# Altium schematic symbol library Schlib_jp.SchLib: 203 symbols (part 3 of 6)
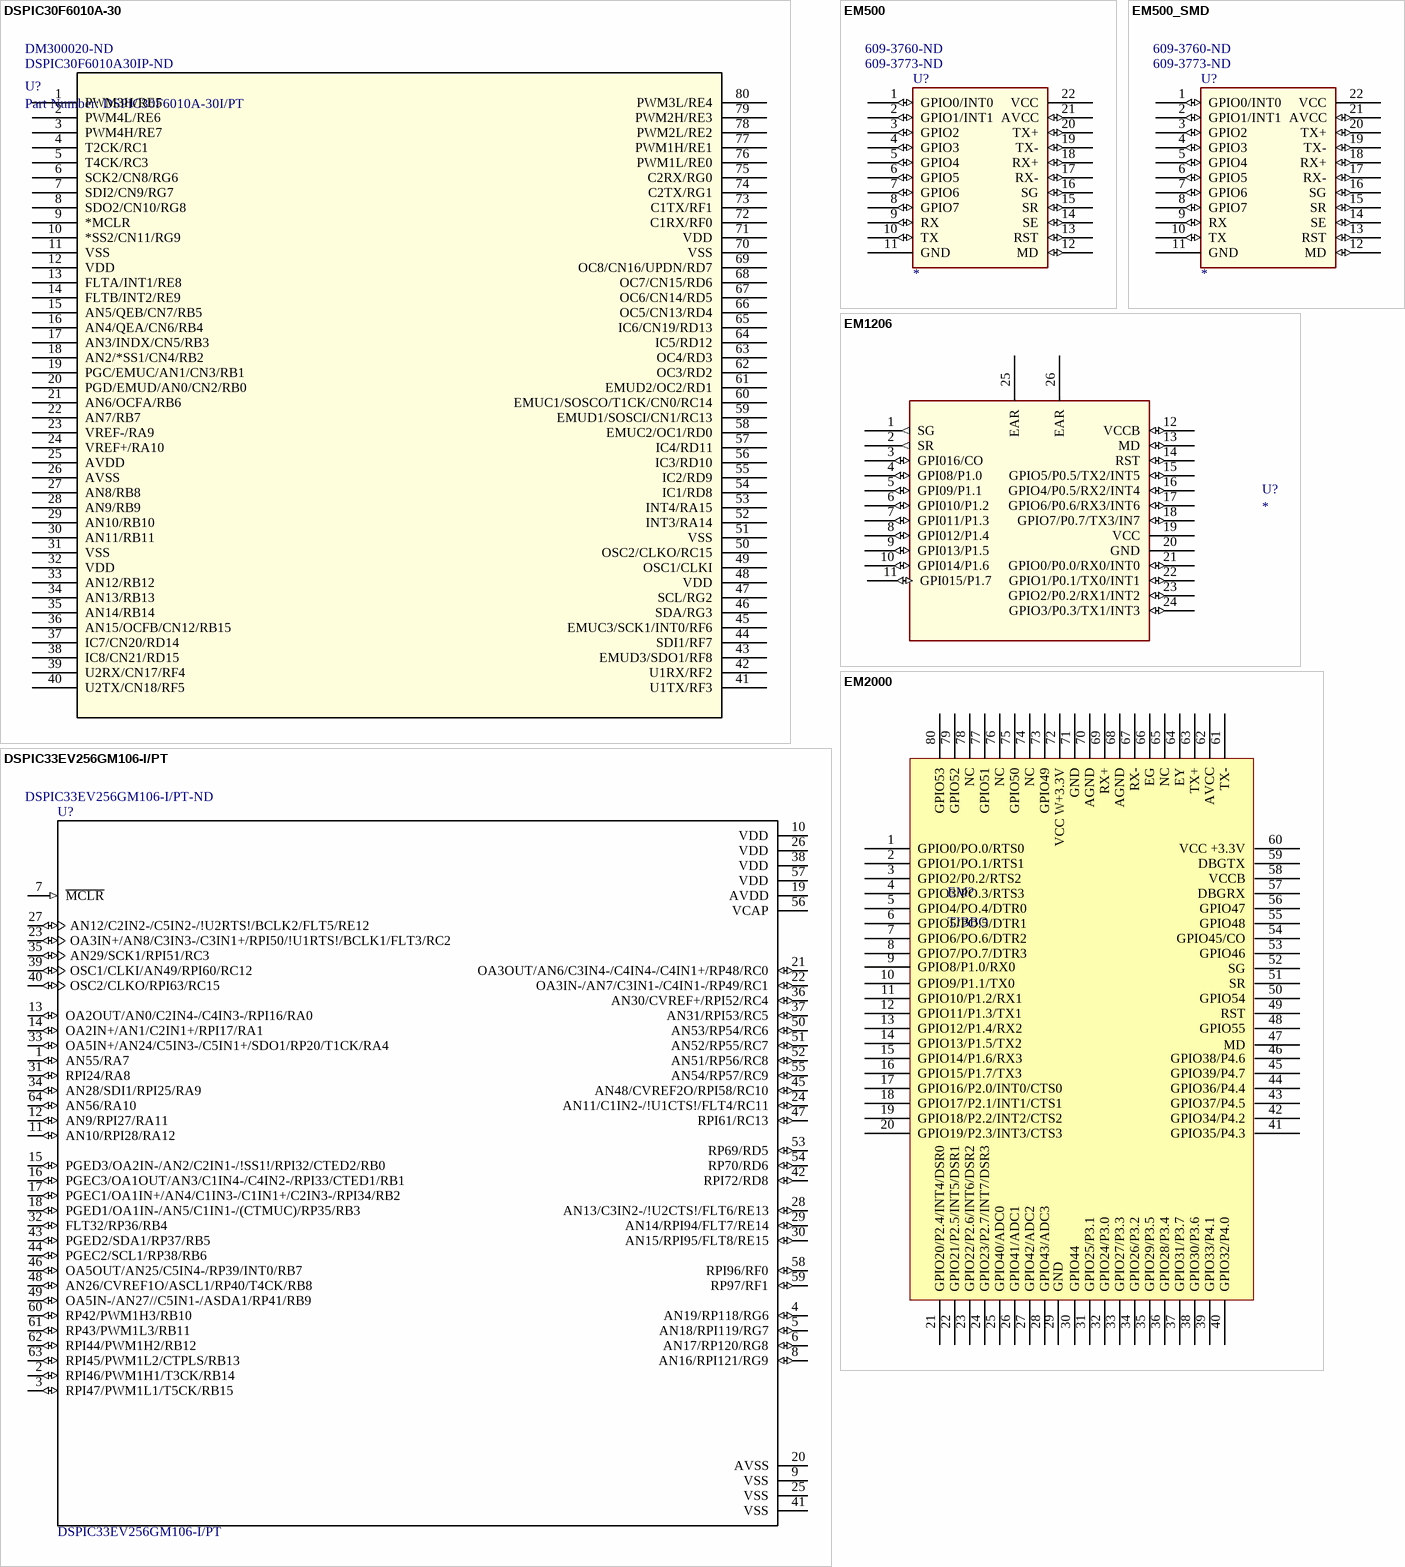
[diagram p10: symbols DSPIC30F6010A-30 to EM2000]

## DSPIC33EV256GM106-I/PT
designator U?  Supplier Part Number 1: DSPIC33EV256GM106-I/PT-ND
dsPIC33EV Series 16 kB RAM 256 kB Flash 16-Bit Digital Signal Controller-TQFP-64; MF: Microchip; RAM Size: 16KB; Min Supply Voltage: 4.5V; Max Supply Voltage: 5.5V; Density: 256KB; Number of PWM Channels: 8; Interface: I2C,SPI,CAN,IrDA,UART,USART,LIN; Number of I/Os: 53; Oscillator Type: Internal; Number of I2C Channels: 1; Number of SPI Channels: 2; Number of Timers/Counters: 9; Data Bus Width: 16b; Number of ADC Channels: 36; Operating Supply Voltage: 5V; Max Frequency: 7.37MHz; Peripherals: Brown-out Detect/Reset,POR,PWM,WDT,DMA; Core Architecture: dsPIC; MP: DSPIC33EV256GM106-I/PT; Digi-Key_Part_Number: DSPIC33EV256GM106-I/PT-ND; Package: TQFP-64 Microchip; SnapEDA_Link: https://www.snapeda.com/parts/DSPIC33EV256GM106-I/PT/Microchip/view-part/225841/?ref=snap; Digi-Key_Purchase_URL: https://www.digikey.com/product-detail/en/microchip-technology/DSPIC33EV256GM106-I-PT/DSPIC33EV256GM106-I-PT-ND/5032091?utm_source=snapeda&utm_medium=aggregator&utm_campaign=symbol; Value: *; Supplier 1: Digi-Key; Manufacturer: Microchip; Manufacturer Part Number: DSPIC33EV256GM106-I/PT; Stock 1: 586; Pricing 1: 1=4.14, 25=3.8 (USD); Mount: Surface Mount; Case/Package: TQFP; Number of Pins: 64; Weight: 0.01272oz; Min Operating Temperature: -40°C; Max Operating Temperature: 85°C; Packaging: Tray; Memory Type: FLASH; Memory Size: 256KB; Package Quantity: 160; Number of UART Channels: 2; Length: 10mm; Height: 1.05mm; Width: 10mm; REACH SVHC: No SVHC; Lead Free: Lead Free; ComponentLink1URL: http://www.farnell.com/datasheets/1866826.pdf?src-supplier=Element14; ComponentLink1Description: http://www.farnell.com/datasheets/1866826.pdf?src-supplier=Element14
footprint *QFP50P1200X1200X120-64N
pins: 1 AN55/RA7 (io), 2 RPI46/PWM1H1/T3CK/RB14 (io), 3 RPI47/PWM1L1/T5CK/RB15 (io), 4 AN19/RP118/RG6 (io), 5 AN18/RPI119/RG7 (io), 6 AN17/RP120/RG8 (io), 7 ~{MCLR} (in), 8 AN16/RPI121/RG9 (io), 9 VSS (power), 10 VDD (power), 11 AN10/RPI28/RA12 (io), 12 AN9/RPI27/RA11 (io), 13 OA2OUT/AN0/C2IN4-/C4IN3-/RPI16/RA0 (io), 14 OA2IN+/AN1/C2IN1+/RPI17/RA1 (io), 15 PGED3/OA2IN-/AN2/C2IN1-/!SS1!/RPI32/CTED2/RB0 (io), 16 PGEC3/OA1OUT/AN3/C1IN4-/C4IN2-/RPI33/CTED1/RB1 (io), 17 PGEC1/OA1IN+/AN4/C1IN3-/C1IN1+/C2IN3-/RPI34/RB2 (io), 18 PGED1/OA1IN-/AN5/C1IN1-/(CTMUC)/RP35/RB3 (io), 19 AVDD (power), 20 AVSS (power), 21 OA3OUT/AN6/C3IN4-/C4IN4-/C4IN1+/RP48/RC0 (io), 22 OA3IN-/AN7/C3IN1-/C4IN1-/RP49/RC1 (io), 23 OA3IN+/AN8/C3IN3-/C3IN1+/RPI50/!U1RTS!/BCLK1/FLT3/RC2 (io), 24 AN11/C1IN2-/!U1CTS!/FLT4/RC11 (io), 25 VSS (power), 26 VDD (power), 27 AN12/C2IN2-/C5IN2-/!U2RTS!/BCLK2/FLT5/RE12 (io), 28 AN13/C3IN2-/!U2CTS!/FLT6/RE13 (io), 29 AN14/RPI94/FLT7/RE14 (io), 30 AN15/RPI95/FLT8/RE15 (io), 31 RPI24/RA8 (io), 32 FLT32/RP36/RB4 (io), 33 OA5IN+/AN24/C5IN3-/C5IN1+/SDO1/RP20/T1CK/RA4 (io), 34 AN28/SDI1/RPI25/RA9 (io), 35 AN29/SCK1/RPI51/RC3 (io), 36 AN30/CVREF+/RPI52/RC4 (io), 37 AN31/RPI53/RC5 (io), 38 VDD (power), 39 OSC1/CLKI/AN49/RPI60/RC12 (io), 40 OSC2/CLKO/RPI63/RC15 (io), 41 VSS (power), 42 RPI72/RD8 (io), 43 PGED2/SDA1/RP37/RB5 (io), 44 PGEC2/SCL1/RP38/RB6 (io), 45 AN48/CVREF2O/RPI58/RC10 (io), 46 OA5OUT/AN25/C5IN4-/RP39/INT0/RB7 (io), 47 RPI61/RC13 (io), 48 AN26/CVREF1O/ASCL1/RP40/T4CK/RB8 (io), 49 OA5IN-/AN27//C5IN1-/ASDA1/RP41/RB9 (io), 50 AN53/RP54/RC6 (io), 51 AN52/RP55/RC7 (io), 52 AN51/RP56/RC8 (io), 53 RP69/RD5 (io), 54 RP70/RD6 (io), 55 AN54/RP57/RC9 (io), 56 VCAP (power), 57 VDD (power), 58 RPI96/RF0 (io), 59 RP97/RF1 (io), 60 RP42/PWM1H3/RB10 (io), 61 RP43/PWM1L3/RB11 (io), 62 RPI44/PWM1H2/RB12 (io), 63 RPI45/PWM1L2/CTPLS/RB13 (io), 64 AN56/RA10 (io)

## EM500
designator U?  Supplier Part Number 1: 609-3773-ND  Supplier Part Number 2: 609-3760-ND
Manufacturer: Amphenol FCI; Manufacturer Part Number: 20021321-00022T4LF; Contact Resistance: 30mR; Connector Type: Receptacle,Socket; Number of Positions: 22; Max Voltage Rating (AC): 125V; Gender: Female; Pitch: 1.27mm; Row Spacing: 0.05inch; Current Rating: 1A; Supplier 1: Digi-Key; Stock 1: 2091; Pricing 1: 1=1.87, 10=1.695, 100=1.4532, 500=1.211, 1000=1.038, 5000=0.92036, 10000=0.8996 (USD); Mount: Surface Mount; Contact Plating: Gold; Contact Material: Copper Alloy; Color: Black; Housing Color: Black; Housing Material: Thermoplastic; Min Operating Temperature: -40°C; Max Operating Temperature: 85°C; Number of Rows: 2; Packaging: Rail/Tube; Package Quantity: 41; Termination: Solder; Number of Contacts: 22; Orientation: Straight; Length: 14.43mm; Depth: 3mm; ComponentLink1URL: https://media.digikey.com/pdf/Data%20Sheets/FCI%20PDFs/Minitek%20127_Catalog.pdf?src-supplier=Digi-Key; ComponentLink1Description: https://media.digikey.com/pdf/Data%20Sheets/FCI%20PDFs/Minitek%20127_Catalog.pdf?src-supplier=Digi-Key; ComponentLink2URL: http://portal.fciconnect.com/Comergent/fci/drawing/20021321.pdf?src-supplier=Avnet; ComponentLink2Description: http://portal.fciconnect.com/Comergent/fci/drawing/20021321.pdf?src-supplier=Avnet; ComponentLink3URL: http://portal.fciconnect.com/Comergent//fci/drawing/20021321.pdf?src-supplier=Mouser; ComponentLink3Description: http://portal.fciconnect.com/Comergent//fci/drawing/20021321.pdf?src-supplier=Mouser; Supplier 2: Digi-Key; Stock 2: 1587; Pricing 2: 1=1.8, 10=1.638, 100=1.4039, 500=1.16988, 1000=1.00275, 5000=0.88911, 10000=0.86905 (USD); Voltage Rating: 125V; ComponentLink4URL: http://portal.fciconnect.com/Comergent//fci/drawing/20021311.pdf?src-supplier=Mouser; ComponentLink4Description: http://portal.fciconnect.com/Comergent//fci/drawing/20021311.pdf?src-supplier=Mouser; ComponentLink5URL: http://portal.fciconnect.com/Comergent//fci/drawing/20021311.pdf?src-supplier=Digi-Key; ComponentLink5Description: http://portal.fciconnect.com/Comergent//fci/drawing/20021311.pdf?src-supplier=Digi-Key; ComponentLink6URL: http://portal.fciconnect.com/Comergent/fci/drawing/20021311.pdf?src-supplier=Avnet; ComponentLink6Description: http://portal.fciconnect.com/Comergent/fci/drawing/20021311.pdf?src-supplier=Avnet
footprint EM500
pins: 1 GPIO0/INT0 (io), 2 GPIO1/INT1 (io), 3 GPIO2 (io), 4 GPIO3 (io), 5 GPIO4 (io), 6 GPIO5 (io), 7 GPIO6 (io), 8 GPIO7 (io), 9 RX (io), 10 TX (io), 11 GND (power), 12 MD (io), 13 RST (io), 14 SE (io), 15 SR (io), 16 SG (io), 17 RX- (io), 18 RX+ (io), 19 TX- (io), 20 TX+ (io), 21 AVCC (io), 22 VCC (power)

## EM500_SMD
designator U?  Supplier Part Number 1: 609-3773-ND  Supplier Part Number 2: 609-3760-ND
Manufacturer: Amphenol FCI; Manufacturer Part Number: 20021321-00022T4LF; Contact Resistance: 30mR; Connector Type: Receptacle,Socket; Number of Positions: 22; Max Voltage Rating (AC): 125V; Gender: Female; Pitch: 1.27mm; Row Spacing: 0.05inch; Current Rating: 1A; Supplier 1: Digi-Key; Stock 1: 2091; Pricing 1: 1=1.87, 10=1.695, 100=1.4532, 500=1.211, 1000=1.038, 5000=0.92036, 10000=0.8996 (USD); Mount: Surface Mount; Contact Plating: Gold; Contact Material: Copper Alloy; Color: Black; Housing Color: Black; Housing Material: Thermoplastic; Min Operating Temperature: -40°C; Max Operating Temperature: 85°C; Number of Rows: 2; Packaging: Rail/Tube; Package Quantity: 41; Termination: Solder; Number of Contacts: 22; Orientation: Straight; Length: 14.43mm; Depth: 3mm; ComponentLink1URL: https://media.digikey.com/pdf/Data%20Sheets/FCI%20PDFs/Minitek%20127_Catalog.pdf?src-supplier=Digi-Key; ComponentLink1Description: https://media.digikey.com/pdf/Data%20Sheets/FCI%20PDFs/Minitek%20127_Catalog.pdf?src-supplier=Digi-Key; ComponentLink2URL: http://portal.fciconnect.com/Comergent/fci/drawing/20021321.pdf?src-supplier=Avnet; ComponentLink2Description: http://portal.fciconnect.com/Comergent/fci/drawing/20021321.pdf?src-supplier=Avnet; ComponentLink3URL: http://portal.fciconnect.com/Comergent//fci/drawing/20021321.pdf?src-supplier=Mouser; ComponentLink3Description: http://portal.fciconnect.com/Comergent//fci/drawing/20021321.pdf?src-supplier=Mouser; Supplier 2: Digi-Key; Stock 2: 1587; Pricing 2: 1=1.8, 10=1.638, 100=1.4039, 500=1.16988, 1000=1.00275, 5000=0.88911, 10000=0.86905 (USD); Voltage Rating: 125V; ComponentLink4URL: http://portal.fciconnect.com/Comergent//fci/drawing/20021311.pdf?src-supplier=Mouser; ComponentLink4Description: http://portal.fciconnect.com/Comergent//fci/drawing/20021311.pdf?src-supplier=Mouser; ComponentLink5URL: http://portal.fciconnect.com/Comergent//fci/drawing/20021311.pdf?src-supplier=Digi-Key; ComponentLink5Description: http://portal.fciconnect.com/Comergent//fci/drawing/20021311.pdf?src-supplier=Digi-Key; ComponentLink6URL: http://portal.fciconnect.com/Comergent/fci/drawing/20021311.pdf?src-supplier=Avnet; ComponentLink6Description: http://portal.fciconnect.com/Comergent/fci/drawing/20021311.pdf?src-supplier=Avnet
footprint SAMTEC_RSM-TIBO-SMD
pins: 1 GPIO0/INT0 (io), 2 GPIO1/INT1 (io), 3 GPIO2 (io), 4 GPIO3 (io), 5 GPIO4 (io), 6 GPIO5 (io), 7 GPIO6 (io), 8 GPIO7 (io), 9 RX (io), 10 TX (io), 11 GND (power), 12 MD (io), 13 RST (io), 14 SE (io), 15 SR (io), 16 SG (io), 17 RX- (io), 18 RX+ (io), 19 TX- (io), 20 TX+ (io), 21 AVCC (io), 22 VCC (power)

## EM1206
designator U?
footprint EM1206
pins: 1 SG (out), 2 SR (out), 3 GPI016/CO (io), 4 GPI08/P1.0 (io), 5 GPI09/P1.1 (io), 6 GPI010/P1.2 (io), 7 GPI011/P1.3 (io), 8 GPI012/P1.4 (io), 9 GPI013/P1.5 (io), 10 GPI014/P1.6 (io), 11 GPI015/P1.7 (io), 12 VCCB (io), 13 MD (io), 14 RST (io), 15 GPIO5/P0.5/TX2/INT5 (io), 16 GPIO4/P0.5/RX2/INT4 (io), 17 GPIO6/P0.6/RX3/INT6 (io), 18 GPIO7/P0.7/TX3/IN7 (io), 19 VCC (power), 20 GND (power), 21 GPIO0/P0.0/RX0/INT0 (io), 22 GPIO1/P0.1/TX0/INT1 (io), 23 GPIO2/P0.2/RX1/INT2 (io), 24 GPIO3/P0.3/TX1/INT3 (io), 25 EAR, 26 EAR

## EM2000
designator EM?, comment TIBBO
Digi_Key_Part_Number: EM2000; Link: https://tibbo.com/store/modules/em2000.html
footprint EM2000 (TIBBO)
pins: 1 GPIO0/PO.0/RTS0, 2 GPIO1/PO.1/RTS1, 3 GPIO2/P0.2/RTS2, 4 GPIO3/PO.3/RTS3, 5 GPIO4/PO.4/DTR0, 6 GPIO5/PO.5/DTR1, 7 GPIO6/PO.6/DTR2, 8 GPIO7/PO.7/DTR3, 9 GPIO8/P1.0/RX0, 10 GPIO9/P1.1/TX0, 11 GPIO10/P1.2/RX1, 12 GPIO11/P1.3/TX1, 13 GPIO12/P1.4/RX2, 14 GPIO13/P1.5/TX2, 15 GPIO14/P1.6/RX3, 16 GPIO15/P1.7/TX3, 17 GPIO16/P2.0/INT0/CTS0, 18 GPIO17/P2.1/INT1/CTS1, 19 GPIO18/P2.2/INT2/CTS2, 20 GPIO19/P2.3/INT3/CTS3, 21 GPIO20/P2.4/INT4/DSR0, 22 GPIO21/P2.5/INT5/DSR1, 23 GPIO22/P2.6/INT6/DSR2, 24 GPIO23/P2.7/INT7/DSR3, 25 GPIO40/ADC0, 26 GPIO41/ADC1, 27 GPIO42/ADC2, 28 GPIO43/ADC3, 29 GND, 30 GPIO44, 31 GPIO25/P3.1, 32 GPIO24/P3.0, 33 GPIO27/P3.3, 34 GPIO26/P3.2, 35 GPIO29/P3.5, 36 GPIO28/P3.4, 37 GPIO31/P3.7, 38 GPIO30/P3.6, 39 GPIO33/P4.1, 40 GPIO32/P4.0, 41 GPIO35/P4.3, 42 GPIO34/P4.2, 43 GPIO37/P4.5, 44 GPIO36/P4.4, 45 GPIO39/P4.7, 46 GPIO38/P4.6, 47 MD, 48 GPIO55, 49 RST, 50 GPIO54, 51 SR, 52 SG, 53 GPIO46, 54 GPIO45/CO, 55 GPIO48, 56 GPIO47, 57 DBGRX, 58 VCCB, 59 DBGTX, 60 VCC +3.3V, 61 TX-, 62 AVCC, 63 TX+, 64 EY, 65 NC, 66 EG, 67 RX-, 68 AGND, 69 RX+, 70 AGND, 71 GND, 72 VCC W+3.3V, 73 GPIO49, 74 NC, 75 GPIO50, 76 NC, 77 GPIO51, 78 NC, 79 GPIO52, 80 GPIO53

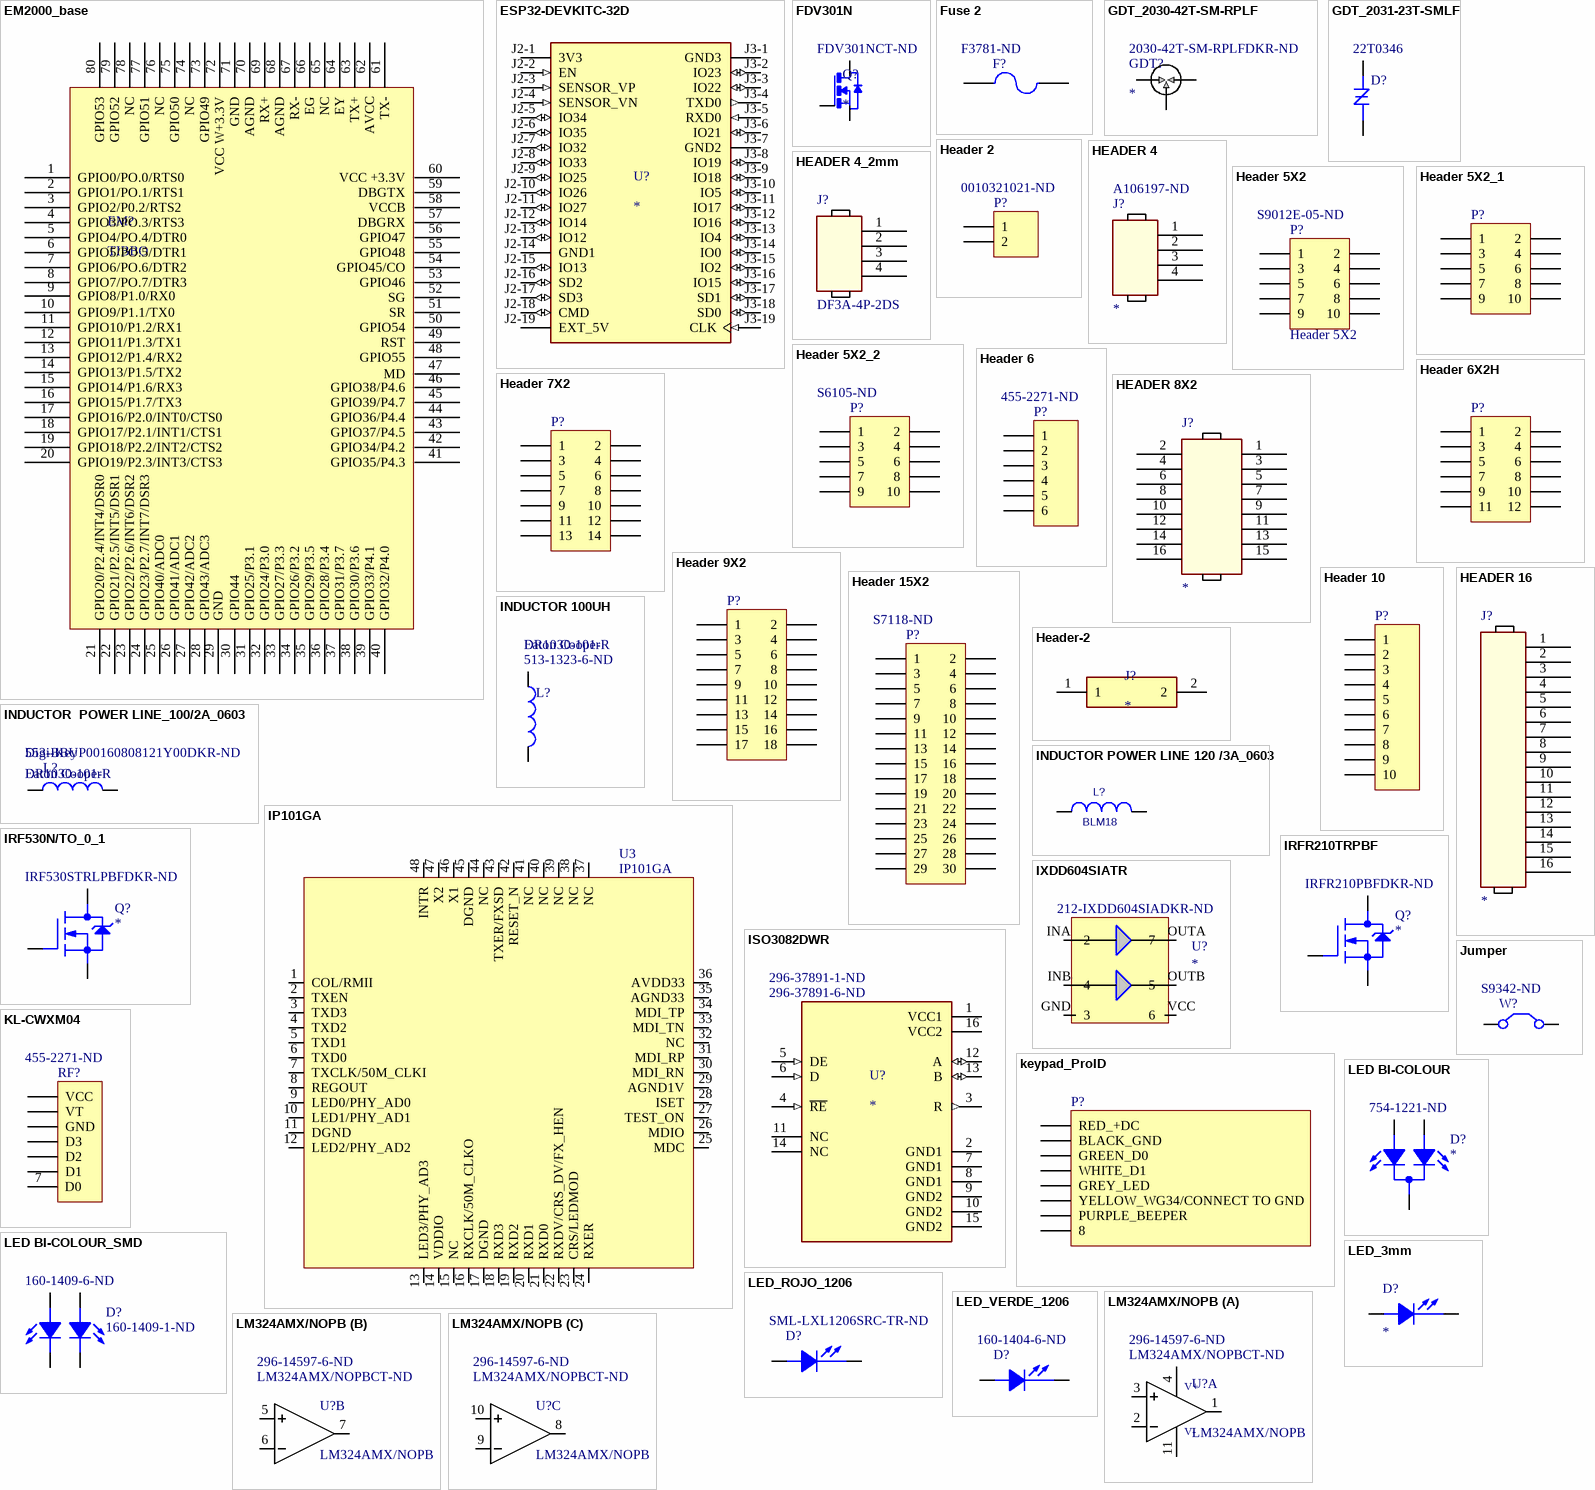
[diagram p3: symbols EM2000_base to LM324AMX/NOPB]

## EM2000_base
designator EM?, comment TIBBO
footprint EM2000 - base (TIBBO)
pins: 1 GPIO0/PO.0/RTS0, 2 GPIO1/PO.1/RTS1, 3 GPIO2/P0.2/RTS2, 4 GPIO3/PO.3/RTS3, 5 GPIO4/PO.4/DTR0, 6 GPIO5/PO.5/DTR1, 7 GPIO6/PO.6/DTR2, 8 GPIO7/PO.7/DTR3, 9 GPIO8/P1.0/RX0, 10 GPIO9/P1.1/TX0, 11 GPIO10/P1.2/RX1, 12 GPIO11/P1.3/TX1, 13 GPIO12/P1.4/RX2, 14 GPIO13/P1.5/TX2, 15 GPIO14/P1.6/RX3, 16 GPIO15/P1.7/TX3, 17 GPIO16/P2.0/INT0/CTS0, 18 GPIO17/P2.1/INT1/CTS1, 19 GPIO18/P2.2/INT2/CTS2, 20 GPIO19/P2.3/INT3/CTS3, 21 GPIO20/P2.4/INT4/DSR0, 22 GPIO21/P2.5/INT5/DSR1, 23 GPIO22/P2.6/INT6/DSR2, 24 GPIO23/P2.7/INT7/DSR3, 25 GPIO40/ADC0, 26 GPIO41/ADC1, 27 GPIO42/ADC2, 28 GPIO43/ADC3, 29 GND, 30 GPIO44, 31 GPIO25/P3.1, 32 GPIO24/P3.0, 33 GPIO27/P3.3, 34 GPIO26/P3.2, 35 GPIO29/P3.5, 36 GPIO28/P3.4, 37 GPIO31/P3.7, 38 GPIO30/P3.6, 39 GPIO33/P4.1, 40 GPIO32/P4.0, 41 GPIO35/P4.3, 42 GPIO34/P4.2, 43 GPIO37/P4.5, 44 GPIO36/P4.4, 45 GPIO39/P4.7, 46 GPIO38/P4.6, 47 MD, 48 GPIO55, 49 RST, 50 GPIO54, 51 SR, 52 SG, 53 GPIO46, 54 GPIO45/CO, 55 GPIO48, 56 GPIO47, 57 DBGRX, 58 VCCB, 59 DBGTX, 60 VCC +3.3V, 61 TX-, 62 AVCC, 63 TX+, 64 EY, 65 NC, 66 EG, 67 RX-, 68 AGND, 69 RX+, 70 AGND, 71 GND, 72 VCC W+3.3V, 73 GPIO49, 74 NC, 75 GPIO50, 76 NC, 77 GPIO51, 78 NC, 79 GPIO52, 80 GPIO53

## ESP32-DEVKITC-32D
designator U?
WiFi Development Tools (802.11) ESP32 General Development Kit, ESP32-WROOM-32D on the board; MF: Espressif Systems; MP: ESP32-DEVKITC-32D; Check_prices: https://www.snapeda.com/parts/ESP32-DEVKITC-32D/Espressif+Systems/view-part/?ref=eda; Purchase-URL: https://pricing.snapeda.com/search/part/ESP32-DEVKITC-32D/?ref=eda; Value: *; Price: None; SnapEDA_Link: https://www.snapeda.com/parts/ESP32-DEVKITC-32D/Espressif+Systems/view-part/?ref=snap; Availability: In Stock; Package: None
footprint MODULE_ESP32-DEVKITC-32D
pins: J2-1 3V3 (power), J2-2 EN (in), J2-3 SENSOR_VP (in), J2-4 SENSOR_VN (in), J2-5 IO34 (io), J2-6 IO35 (io), J2-7 IO32 (io), J2-8 IO33 (io), J2-9 IO25 (io), J2-10 IO26 (io), J2-11 IO27 (io), J2-12 IO14 (io), J2-13 IO12 (io), J2-14 GND1 (power), J2-15 IO13 (io), J2-16 SD2 (io), J2-17 SD3 (io), J2-18 CMD (io), J2-19 EXT_5V (power), J3-1 GND3 (power), J3-2 IO23 (io), J3-3 IO22 (io), J3-4 TXD0 (out), J3-5 RXD0 (in), J3-6 IO21 (io), J3-7 GND2 (power), J3-8 IO19 (io), J3-9 IO18 (io), J3-10 IO5 (io), J3-11 IO17 (io), J3-12 IO16 (io), J3-13 IO4 (io), J3-14 IO0 (io), J3-15 IO2 (io), J3-16 IO15 (io), J3-17 SD1 (io), J3-18 SD0 (io), J3-19 CLK (in)

## FDV301N
designator Q?  Supplier Part Number 1: FDV301NCT-ND
N-Channel 25V 220mA (Ta) 350mW (Ta) Surface Mount SOT-23; MP: FDV301N; MF: ON Semiconductor; Price: None; SnapEDA_Link: https://www.snapeda.com/parts/FDV301N/ON%20Semiconductor/view-part/210/?ref=snap; Availability: Unavailable; Value: *; Package: TO-236 ON Semiconductor; Supplier 1: Digi-Key
footprint SOT-23
pins: P$1 G, P$2 S, P$3 D

## Fuse 2
designator F?  Supplier Part Number 1: F3781-ND
Fuse; Manufacturer: Littelfuse; Manufacturer Part Number: 01020071Z; Body Material: Brass; Material: Brass,Tin; Voltage Rating (AC): 250V; Current Rating: 15A; Number of Circuits: 1; Published: 8-Jun-2000; LatestRevisionDate: 17-Jul-2002; LatestRevisionNote: Re-released for DXP Platform.; PackageReference: PIN-W2/E2.8; Publisher: Altium Limited; PackageDescription: Thru-Hole; 2 Leads; Supplier 1: Digi-Key; Stock 1: 27692; Pricing 1: 1=0.22, 5=0.21, 10=0.202, 50=0.1798, 100=0.1674, 250=0.1488, 500=0.124, 1000=0.1178, 5000=0.093 (USD); Mount: PCB; Contact Plating: Tin; Contact Material: Brass; Package Quantity: 1000; Packaging: Bulk; Voltage Rating (DC): 250V; Termination: PC Pin; Fuse Current: 15A; Voltage Rating: 250V; Voltage: 250V; Orientation: Horizontal; Diameter: 6.35mm; Length: 7.11mm; Height: 10.67mm; Width: 7.87mm; Depth: 7.11mm; Lead Free: Lead Free; REACH SVHC: Unknown; ComponentLink1URL: http://www.farnell.com/datasheets/668552.pdf?src-supplier=Element14; ComponentLink1Description: http://www.farnell.com/datasheets/668552.pdf?src-supplier=Element14; ComponentLink2URL: http://uk.rs-online.com/webdocs/128f/0900766b8128f6e8.pdf?src-supplier=RSComponents; ComponentLink2Description: http://uk.rs-online.com/webdocs/128f/0900766b8128f6e8.pdf?src-supplier=RSComponents; ComponentLink3URL: https://www.littelfuse.com/~/media/electronics/datasheets/fuse_clips/littelfuse_fuse_clip_102_122_datasheet.pdf.pdf?src-supplier=Digi-Key; ComponentLink3Description: https://www.littelfuse.com/~/media/electronics/datasheets/fuse_clips/littelfuse_fuse_clip_102_122_datasheet.pdf.pdf?src-supplier=Digi-Key; ComponentLink4URL: https://www.verical.com/server-webapp/html/getDatasheet?partID=336939&src-supplier=Verical; ComponentLink4Description: https://www.verical.com/server-webapp/html/getDatasheet?partID=336939&src-supplier=Verical; ComponentLink5URL: http://www.farnell.com/datasheets/1480080.pdf?src-supplier=Element14; ComponentLink5Description: http://www.farnell.com/datasheets/1480080.pdf?src-supplier=Element14; ComponentLink6URL: https://www.distrelec.biz/Web/Downloads/_t/ds/102-series_eng_tds.pdf?mime=application%2Fpdf&src-supplier=Distrelec; ComponentLink6Description: https://www.distrelec.biz/Web/Downloads/_t/ds/102-series_eng_tds.pdf?mime=application%2Fpdf&src-supplier=Distrelec
simulation model FUSE (Spice Subcircuit)
footprint Fuse
pins: 1, 2

## GDT_2030-42T-SM-RPLF
designator GDT?  Supplier Part Number 1: 2030-42T-SM-RPLFDKR-ND
Gas Discharge Tube 360 V 4000A (4kA) 3 Pole Surface Mount; Mfr_Name: Bourns Electronics; RefDes: RefDes; Type: Type; Supplier 1: Digi-Key; ComponentLink1Description: GDT 360V 4KA 3 POLE SMD; ComponentLink1URL: https://www.digikey.com/es/products/detail/2030-42T-SM-RPLF/2030-42T-SM-RPLFDKR-ND/3481471?utm_campaign=buynow&utm_medium=aggregator&curr=usd&utm_source=octopart; Link: https://www.digikey.com/es/products/detail/2030-42T-SM-RPLF/2030-42T-SM-RPLFDKR-ND/3481471?utm_campaign=buynow&utm_medium=aggregator&curr=usd&utm_source=octopart; Digi-Key_Part_Number: 2030-42T-SM-RPLFCT-ND
footprint 2030_42T_SM_BRN
pins: 1, 2, 3

## GDT_2031-23T-SMLF
designator D?, comment Supplier Part Number 1: 22T0346  (hidden comment: 2031-23T-SMLF-ND)
Supresores de tubos de descarga de gas 185 V 1000A (1kA) 2 polos Montaje en superficie; Supplier 1: Newark
footprint MOV_B88069X1520T352
pins: 1, 2

## Header 2
designator P?  Supplier Part Number 1: 0010321021-ND
Header, 2-Pin; Manufacturer: Molex; Number of Positions: 2; Max Voltage Rating (AC): 250V; Connector Type: Male Pin; Contact Resistance: 10mR; Gender: Male; Pitch: 5.08mm; LatestRevisionDate: 17-Jul-2002; LatestRevisionNote: Re-released for DXP Platform.; Publisher: Altium Limited; Supplier 1: Digi-Key; Manufacturer Part Number: 10-32-1021; Stock 1: 0; Mount: Through Hole; Color: Natural; Housing Color: Natural; Housing Material: Nylon; Contact Plating: Tin; Contact Material: Brass; Min Operating Temperature: -40°C; Max Operating Temperature: 105°C; Number of Rows: 1; Packaging: Bulk; Fastening Type: Friction; Termination: Solder; Orientation: Straight; Number of Contacts: 2; Length: 9.08mm; Depth: 11.4mm; Contact Mating Length: 0.419inch; ComponentLink1URL: http://www.mouser.com/ds/2/276/0010321021_PCB_HEADERS-131538.pdf?src-supplier=Mouser; ComponentLink1Description: http://www.mouser.com/ds/2/276/0010321021_PCB_HEADERS-131538.pdf?src-supplier=Mouser; ComponentLink2URL: http://uk.rs-online.com/webdocs/13c2/0900766b813c2c21.pdf?src-supplier=RSComponents; ComponentLink2Description: http://uk.rs-online.com/webdocs/13c2/0900766b813c2c21.pdf?src-supplier=RSComponents; ComponentLink3URL: https://www.molex.com/pdm_docs/sd/010321021_sd.pdf?src-supplier=Digi-Key; ComponentLink3Description: https://www.molex.com/pdm_docs/sd/010321021_sd.pdf?src-supplier=Digi-Key; ComponentLink4URL: http://www.molex.com/webdocs/datasheets/pdf/en-us/0010321021_PCB_HEADERS.pdf?src-supplier=Avnet+Europe; ComponentLink4Description: http://www.molex.com/webdocs/datasheets/pdf/en-us/0010321021_PCB_HEADERS.pdf?src-supplier=Avnet+Europe; ComponentLink5URL: http://www.molex.com/webdocs/datasheets/pdf/en-us/0010321021_PCB_HEADERS.pdf?src-supplier=Avnet; ComponentLink5Description: http://www.molex.com/webdocs/datasheets/pdf/en-us/0010321021_PCB_HEADERS.pdf?src-supplier=Avnet
footprint HDR1X2 (Connector; Header; 2 Position)
pins: 1, 2

## HEADER 4
designator J?  Supplier Part Number 1: A106197-ND
Manufacturer: TE Connectivity; Manufacturer Part Number: 171825-4; Current Rating: 3.5A; Voltage Rating: 350V; Number of Positions: 4; Max Voltage Rating (AC): 250V; Connector Type: Header,Plug,Pin; PCB Mounting Orientation: Vertical; Polarized: No; Panel Mount Retention: No (Without); PCB Mount Retention: Without; Wire Gauge (Max): 22AWG; Wire Gauge (Min): 28AWG; Pitch: 2.5mm; Approvals: UL; Supplier 1: Digi-Key; Stock 1: 18682; Pricing 1: 1=0.26, 10=0.246, 100=0.1707, 500=0.1444, 1000=0.11815, 5000=0.10502, 10000=0.09518 (USD); Mount: Through Hole; Contact Plating: Copper,Tin; Color: Natural,Beige; Contact Material: Brass; Housing Color: Natural; Housing Material: Nylon; Insulation Material: Polyamide; Min Operating Temperature: -20°C; Max Operating Temperature: 95°C; Number of Rows: 1; Package Quantity: 1000; Packaging: Bag; Contact Gender: Male; Max Voltage Rating (DC): 350V; Termination: Solder; Number of Contacts: 4; Orientation: Straight; Length: 10mm; Height: 10mm; Lead Pitch: 2.49mm; Width: 14mm; Contact Mating Length: 0.295inch; Depth: 4.9mm; Radiation Hardening: No; REACH SVHC: No SVHC; Flammability Rating: UL94 V-0; ComponentLink1URL: http://www.jameco.com/Jameco/Products/ProdDS/1930162.pdf?src-supplier=Jameco; ComponentLink1Description: http://www.jameco.com/Jameco/Products/ProdDS/1930162.pdf?src-supplier=Jameco; ComponentLink2URL: https://www.alliedelec.com/m/d/9c168632fc1c14b3b35331811121f1a2.pdf?src-supplier=Allied+Electronics; ComponentLink2Description: https://www.alliedelec.com/m/d/9c168632fc1c14b3b35331811121f1a2.pdf?src-supplier=Allied+Electronics; ComponentLink3URL: http://www.farnell.com/datasheets/1658350.pdf?src-supplier=Farnell; ComponentLink3Description: http://www.farnell.com/datasheets/1658350.pdf?src-supplier=Farnell; ComponentLink4URL: https://www.verical.com/server-webapp/html/getDatasheet?partID=44161&src-supplier=Verical; ComponentLink4Description: https://www.verical.com/server-webapp/html/getDatasheet?partID=44161&src-supplier=Verical; ComponentLink5URL: http://www.onlinecomponents.com/productFiles/mf-AMP/eng_cat_1242174_0698_8_.pdf?src-supplier=Onlinecomponents.com; ComponentLink5Description: http://www.onlinecomponents.com/productFiles/mf-AMP/eng_cat_1242174_0698_8_.pdf?src-supplier=Onlinecomponents.com
footprint CONN_GP904
pins: 1, 2, 3, 4

## HEADER 4_2mm
designator J?, comment DF3A-4P-2DS
Cabezal de conector Orificio pasante, ángulo recto 4 posiciones 0.079" (2.00mm); Manufacturer: TE Connectivity; Manufacturer Part Number: 171825-4; Current Rating: 3.5A; Voltage Rating: 350V; Number of Positions: 4; Max Voltage Rating (AC): 250V; Connector Type: Header,Plug,Pin; PCB Mounting Orientation: Vertical; Polarized: No; Panel Mount Retention: No (Without); PCB Mount Retention: Without; Wire Gauge (Max): 22AWG; Wire Gauge (Min): 28AWG; Pitch: 2.5mm; Approvals: UL; Mount: Through Hole; Contact Plating: Copper,Tin; Color: Natural,Beige; Contact Material: Brass; Housing Color: Natural; Housing Material: Nylon; Insulation Material: Polyamide; Min Operating Temperature: -20°C; Max Operating Temperature: 95°C; Number of Rows: 1; Package Quantity: 1000; Packaging: Bag; Contact Gender: Male; Max Voltage Rating (DC): 350V; Termination: Solder; Number of Contacts: 4; Orientation: Straight; Length: 10mm; Height: 10mm; Lead Pitch: 2.49mm; Width: 14mm; Contact Mating Length: 0.295inch; Depth: 4.9mm; Radiation Hardening: No; REACH SVHC: No SVHC; Flammability Rating: UL94 V-0; ComponentLink1Description: CONN HEADER R/A 4POS 2MM; ComponentLink1URL: https://www.digikey.com/es/products/detail/hirose-electric-co-ltd/DF3A-4P-2DS/560461; Digi-Key_Part_Number: H3895-ND; Link: https://www.digikey.com/es/products/detail/hirose-electric-co-ltd/DF3A-4P-2DS/560461
footprint SHDRRA4W60P0X200_1X4_1000X720X530P
pins: 1, 2, 3, 4

## Header 5X2
designator P?  Supplier Part Number 1: S9012E-05-ND
Cabezal de conector Montaje en superficie 10 posiciones 0.050" (1.27mm); LatestRevisionDate: 17-Jul-2002; LatestRevisionNote: Re-released for DXP Platform.; Publisher: Altium Limited; ComponentLink1Description: GRPB052VWQS-RC; ComponentLink1URL: https://www.digikey.com/es/products/detail/sullins-connector-solutions/GRPB052VWQS-RC/1786414; Supplier 1: Digi-Key; ComponentLink2Description: CONN HEADER SMD 10POS 1.27MM; ComponentLink2URL: https://www.digikey.com/es/products/detail/GRPB052VWQS-RC/S9012E-05-ND/1786414?utm_campaign=buynow&utm_medium=aggregator&curr=usd&utm_source=octopart; Link: https://www.digikey.com/es/products/detail/GRPB052VWQS-RC/S9012E-05-ND/1786414?utm_campaign=buynow&utm_medium=aggregator&curr=usd&utm_source=octopart; Digi-Key_Part_Number: S9012E-05-ND
signal-integrity model Connector
footprint IDC(SMD)-2X5(1.27MM)
pins: 1, 2, 3, 4, 5, 6, 7, 8, 9, 10

## Header 5X2_1
designator P?
Header, 5-Pin, Dual row; LatestRevisionDate: 17-Jul-2002; LatestRevisionNote: Re-released for DXP Platform.; Publisher: Altium Limited
signal-integrity model Connector
footprint HDR2X5 - duplicate (Connector; Header; 5x2 Position)
pins: 1, 2, 3, 4, 5, 6, 7, 8, 9, 10

## Header 5X2_2
designator P?  Supplier Part Number 1: S6105-ND
10 Position Header Connector 0.100" (2.54mm) Through Hole Tin; LatestRevisionDate: 17-Jul-2002; LatestRevisionNote: Re-released for DXP Platform.; Publisher: Altium Limited; Supplier 1: Digi-Key; ComponentLink1Description: CONN HDR 10POS 0.1 TIN PCB; ComponentLink1URL: https://www.digikey.com/es/products/detail/PPTC052LFBN-RC/S6105-ND/807243?utm_campaign=buynow&utm_medium=aggregator&curr=usd&utm_source=octopart; Link: https://www.digikey.com/es/products/detail/PPTC052LFBN-RC/S6105-ND/807243?utm_campaign=buynow&utm_medium=aggregator&curr=usd&utm_source=octopart; Digi-Key_Part_Number: S6105-ND
signal-integrity model Connector
footprint HDR2X5 (Connector; Header; 5x2 Position)
pins: 1, 2, 3, 4, 5, 6, 7, 8, 9, 10

## Header 6
designator P?  Supplier Part Number 1: 455-2271-ND
Cabezal de conector Orificio pasante 6 posiciones 0.098" (2.50mm); Manufacturer: JST; Manufacturer Part Number: B6BXHA(LF)(SN); Contact Resistance: 20mR; Current Rating: 3A; Voltage Rating (AC): 250V; Number of Positions: 6; Insulation Resistance: 1GR; Connector Type: Male Pin; Wire/Cable Gauge: 22AWG; Pitch: 2.5mm; LatestRevisionDate: 17-Jul-2002; LatestRevisionNote: Re-released for DXP Platform.; Publisher: Altium Limited; Supplier 1: Digi-Key; Stock 1: 28709; Pricing 1: 1=0.27, 10=0.258, 100=0.1808, 500=0.15494, 1000=0.12912, 5000=0.11068, 10000=0.1033 (USD); Mount: Through Hole; Contact Plating: Tin,Lead,Copper; Contact Material: Brass; Color: Natural; Housing Color: White; Housing Material: Polyamide; Min Operating Temperature: -25°C; Max Operating Temperature: 85°C; Package Quantity: 500; Packaging: Bulk; Termination: Press-Fit; Number of Rows: 1; Voltage Rating: 250V; Max Current Rating: 3A; Number of Contacts: 6; Max Voltage Rating (AC): 250V; Max Voltage Rating (DC): 250V; Orientation: Straight; Length: 17.4mm; Depth: 5.75mm; Lead Pitch: 2.5mm; REACH SVHC: No SVHC; Lead Free: Lead Free; ComponentLink1URL: https://www.verical.com/server-webapp/html/getDatasheet?partID=424647&src-supplier=Verical; ComponentLink1Description: https://www.verical.com/server-webapp/html/getDatasheet?partID=424647&src-supplier=Verical; ComponentLink2URL: http://www.rapidonline.com/pdf/523653.pdf?src-supplier=Rapid+Electronics; ComponentLink2Description: http://www.rapidonline.com/pdf/523653.pdf?src-supplier=Rapid+Electronics; ComponentLink3URL: https://www.verical.com/server-webapp/html/getDatasheet?partID=641012&src-supplier=Verical; ComponentLink3Description: https://www.verical.com/server-webapp/html/getDatasheet?partID=641012&src-supplier=Verical; ComponentLink4URL: http://www1.futureelectronics.com/doc/JST/B6B-XH-A(LF)(SN).pdf?src-supplier=Future+Electronics; ComponentLink4Description: http://www1.futureelectronics.com/doc/JST/B6B-XH-A(LF)(SN).pdf?src-supplier=Future+Electronics; ComponentLink5URL: http://www.jst-mfg.com/product/pdf/eng/eXH.pdf?src-supplier=Digi-Key; ComponentLink5Description: http://www.jst-mfg.com/product/pdf/eng/eXH.pdf?src-supplier=Digi-Key; Digi_Key_Part_Number: 455-2271-ND; Link: https://www.digikey.com/es/products/detail/B6B-XH-A(LF)(SN)/455-2271-ND/1000381?utm_campaign=buynow&utm_medium=aggregator&curr=usd&utm_source=octopart; ComponentLink6Description: CONN HEADER VERT 6POS 2.5MM; ComponentLink6URL: https://www.digikey.com/es/products/detail/B6B-XH-A(LF)(SN)/455-2271-ND/1000381?utm_campaign=buynow&utm_medium=aggregator&curr=usd&utm_source=octopart; ComponentLink7Description: CONN HEADER VERT 6POS 2.5MM; ComponentLink7URL: https://www.digikey.com/es/products/detail/jst-sales-america-inc/B6B-XH-A-LF-SN/1000381
footprint HDR1X6 (Connector; Header; 6 Position)
pins: 1, 2, 3, 4, 5, 6

## Header 6X2H
designator P?
Header, 6-Pin, Dual row, Right Angle; LatestRevisionDate: 17-Jul-2002; LatestRevisionNote: Re-released for DXP Platform.; Publisher: Altium Limited
footprint HDR2X6_CEN (Connector; Header; 6x2 Position)
pins: 1, 2, 3, 4, 5, 6, 7, 8, 9, 10, 11, 12

## Header 7X2
designator P?
Header, 7-Pin, Dual row; LatestRevisionDate: 17-Jul-2002; LatestRevisionNote: Re-released for DXP Platform.; Publisher: Altium Limited
signal-integrity model Connector
footprint HDR2X7 (Connector; Header; 7x2 Position)
pins: 1, 2, 3, 4, 5, 6, 7, 8, 9, 10, 11, 12, 13, 14

## HEADER 8X2
designator J?
footprint DISPLAY_BL
pins: 1, 2, 3, 4, 5, 6, 7, 8, 9, 10, 11, 12, 13, 14, 15, 16

## Header 9X2
designator P?
Header, 9-Pin, Dual row; LatestRevisionDate: 17-Jul-2002; LatestRevisionNote: Re-released for DXP Platform.; Publisher: Altium Limited
footprint IDC-2X9
pins: 1, 2, 3, 4, 5, 6, 7, 8, 9, 10, 11, 12, 13, 14, 15, 16, 17, 18

## Header 10
designator P?
10 Position Header Connector 0.079" (2.00mm) Through Hole Gold; Digi_Key_Part_Number: S5751-10-ND; LatestRevisionDate: 17-Jul-2002; LatestRevisionNote: Re-released for DXP Platform.; Publisher: Altium Limited; Link: https://www.digikey.com/en/products/detail/sullins-connector-solutions/NPPN101BFCN-RC/804812; ComponentLink1Description: CONN HDR 10POS 0.079 GOLD PCB; ComponentLink1URL: https://www.digikey.com/es/products/detail/sullins-connector-solutions/NPPN101BFCN-RC/804812?s=N4IgTCBcDaIMoFcA2SCWA7AzgAgMIHt10BTAYwBd8AnbAOQAV7aBGABmYCEAxXWgWgBKuEAF0AvkA
signal-integrity model Connector
footprint RHDR10W55P0X200_1X10_2050X240X440P
pins: 1, 2, 3, 4, 5, 6, 7, 8, 9, 10

## Header 15X2
designator P?  Supplier Part Number 1: S7118-ND
30 Position Header Connector 0.100" (2.54mm) Through Hole GoldCONN HDR 30POS 0.1 GOLD PCB; LatestRevisionDate: 17-Jul-2002; LatestRevisionNote: Re-released for DXP Platform.; Publisher: Altium Limited; Supplier 1: Digi-Key; ComponentLink1Description: CONN HDR 30POS 0.1 GOLD PCB; ComponentLink1URL: https://www.digikey.com/es/products/detail/PPPC152LFBN-RC/S7118-ND/810254?utm_campaign=buynow&utm_medium=aggregator&curr=usd&utm_source=octopart; Digi-Key_Part_Number: S7118-ND; Link: https://www.digikey.com/es/products/detail/PPPC152LFBN-RC/S7118-ND/810254?utm_campaign=buynow&utm_medium=aggregator&curr=usd&utm_source=octopart
footprint HDR2X15 (Connector; Header; 15x2 Position)
signal-integrity model Connector
pins: 1, 2, 3, 4, 5, 6, 7, 8, 9, 10, 11, 12, 13, 14, 15, 16, 17, 18, 19, 20, 21, 22, 23, 24, 25, 26, 27, 28, 29, 30

## HEADER 16
designator J?
pins: 1, 2, 3, 4, 5, 6, 7, 8, 9, 10, 11, 12, 13, 14, 15, 16

## Header-2
designator J?
MP: 3-647295-2; Package: None; Price: None; Value: *; Availability: Unavailable
footprint header-2
pins: 1, 2

## INDUCTOR 100UH
designator L?, comment Manufacturer: Eaton Cooper  Manufacturer Part Number: DR1030-101-R  Supplier Part Number 1: 513-1323-6-ND  (hidden comment: 513-1323-1-ND)
100 µH Shielded Drum Core, Wirewound Inductor 860 mA 450mOhm Max Nonstandard; Core Material: Ferrite; Current Rating: 860mA; Saturation Current: 1.05A; Tolerance: 30%; Inductance: 100uH; DC Resistance (DCR): 450mR; Test Frequency: 100kHz; Self Resonant Frequency: 1MHz; Mount: Surface Mount; Case/Package: Nonstandard; Number of Pins: 2; Weight: 0.17637oz; Min Operating Temperature: -40°C; Max Operating Temperature: 125°C; Package Quantity: 1000; Shielding: Shielded; Packaging: Tape and Reel; Inductance Tolerance: 30%; Composition: Wirewound; Max DC Current: 1.05A; Termination: SMD/SMT; DC Current: 860mA; Military Standard: Not; RMS Current (Irms): 860mA; Length: 10.5mm; Height: 3mm; Width: 0.405inch; Height - Seated (Max): 0.118inch; Depth: 10.3mm; Radiation Hardening: No; REACH SVHC: Unknown; Lead Free: Lead Free; ComponentLink1URL: https://www.verical.com/server-webapp/html/getDatasheet?partID=709220&src-supplier=Verical; ComponentLink1Description: https://www.verical.com/server-webapp/html/getDatasheet?partID=709220&src-supplier=Verical; ComponentLink2URL: http://www.cooperbussmann.com/pdf/c73e479f-f867-4c64-ae26-9c1f23814163.pdf?src-supplier=Element14; ComponentLink2Description: http://www.cooperbussmann.com/pdf/c73e479f-f867-4c64-ae26-9c1f23814163.pdf?src-supplier=Element14; ComponentLink3URL: http://uk.rs-online.com/webdocs/116a/0900766b8116a1a6.pdf?src-supplier=RSComponents; ComponentLink3Description: http://uk.rs-online.com/webdocs/116a/0900766b8116a1a6.pdf?src-supplier=RSComponents; ComponentLink4URL: http://www.farnell.com/datasheets/1910184.pdf?src-supplier=Element14; ComponentLink4Description: http://www.farnell.com/datasheets/1910184.pdf?src-supplier=Element14; ComponentLink5URL: http://www.mouser.com/ds/2/87/Bus_Elx_DS_PM-4132_DR1030-473965.pdf?src-supplier=Mouser; ComponentLink5Description: http://www.mouser.com/ds/2/87/Bus_Elx_DS_PM-4132_DR1030-473965.pdf?src-supplier=Mouser; ComponentLink6URL: http://www.cooperindustries.com/content/dam/public/bussmann/Electronics/Resources/product-datasheets/Bus_Elx_DS_PM-4132_DR1030.pdf?src-supplier=Future+Electronics; ComponentLink6Description: http://www.cooperindustries.com/content/dam/public/bussmann/Electronics/Resources/product-datasheets/Bus_Elx_DS_PM-4132_DR1030.pdf?src-supplier=Future+Electronics; Supplier 1: Digi-Key; Link: https://www.digikey.com/en/products/detail/eaton-electronics-division/DR1030-101-R/1130342?s=N4IgTCBcDaIKwEYDMyxIGwgLoF8g; Digi_Key_Part_Number: 513-1323-1-ND; ComponentLink7Description: FIXED IND 100UH 860MA 450MOHM SM; ComponentLink7URL: https://www.digikey.com/es/products/detail/eaton-electronics-division/DR1030-101-R/1130342?s=N4IgTCBcDaIKwEYDMBaZZUJQOQCIgF0BfIA
footprint bobina
pins: 1, 2

## INDUCTOR  POWER LINE_100/2A_0603
designator L?, comment Supplier 1: Digi-Key  Manufacturer: Eaton Cooper  Manufacturer Part Number: DR1030-101-R  Supplier Part Number 1: 553-BBUP00160808121Y00DKR-ND  (hidden comment: 553-BBUP00160808121Y00CT-ND)
100 Ohms @ 100 MHz 1 Línea de alimentación Perlas de ferrita y astillas 0603 (1608 métrico) 2A 35mOhm; Digi_Key_Part_Number: 399-9608-1-ND; Core Material: Ferrite; Current Rating: 860mA; Saturation Current: 1.05A; Tolerance: 30%; Shielding: Shielded; Inductance: 100uH; DC Resistance (DCR): 450mR; Test Frequency: 100kHz; Self Resonant Frequency: 1MHz; Mount: Surface Mount; Case/Package: Nonstandard; Number of Pins: 2; Weight: 0.17637oz; Min Operating Temperature: -40°C; Max Operating Temperature: 125°C; Package Quantity: 1000; Packaging: Tape and Reel; Inductance Tolerance: 30%; Composition: Wirewound; Max DC Current: 1.05A; Termination: SMD/SMT; DC Current: 860mA; Military Standard: Not; RMS Current (Irms): 860mA; Length: 10.5mm; Height: 3mm; Width: 0.405inch; Height - Seated (Max): 0.118inch; Depth: 10.3mm; Radiation Hardening: No; REACH SVHC: Unknown; Lead Free: Lead Free; ComponentLink1Description: Z0603C121APMST; ComponentLink1URL: https://www.digikey.com/es/products/detail/kemet/Z0603C121APMST/13146939; Link: https://www.digikey.com/es/products/detail/Z0603C101BPWZT/399-9608-1-ND/3674093?utm_campaign=buynow&utm_medium=aggregator&curr=usd&utm_source=octopart
footprint IND-0603 (Inductor 0603(1608))
pins: 1, 2

## INDUCTOR POWER LINE 120 /3A_0603
designator L?, comment BLM18
120 Ohms 1 Ferrite Bead 0603 (1608 Metric) 3A 30mOhm; Digi_Key_Part_Number: 553-BBUP00160808121Y00CT-ND; Value: BLM18; Supplier 1: Digi-Key; Supplier Part Number 1: 399-9608-1-ND; Link: https://www.digikey.com/en/products/detail/pulse-electronics/BBUP00160808121Y00/10508561; ComponentLink1Description: FERRITE BEAD 120 OHM 0603 1LN; ComponentLink1URL: https://www.digikey.com/es/products/detail/pulse-electronics/BBUP00160808121Y00/10508561?s=N4IgTCBcDaIKxwMwFoBCqCqAFADDgjAGw4Acp%2BY%2BAmngMIAqyAcgCIgC6AvkA
footprint SM/C_0603
pins: 1, 2

## IP101GA
designator U3
Single Port 10/100 MII/RMII/TP/Fiber  Fast Ethernet Transceiver
footprint LQFP48(0.5/9.0)
pins: 1 COL/RMII, 2 TXEN, 3 TXD3, 4 TXD2, 5 TXD1, 6 TXD0, 7 TXCLK/50M_CLKI, 8 REGOUT, 9 LED0/PHY_AD0, 10 LED1/PHY_AD1, 11 DGND, 12 LED2/PHY_AD2, 13 LED3/PHY_AD3, 14 VDDIO, 15 NC, 16 RXCLK/50M_CLKO, 17 DGND, 18 RXD3, 19 RXD2, 20 RXD1, 21 RXD0, 22 RXDV/CRS_DV/FX_HEN, 23 CRS/LEDMOD, 24 RXER, 25 MDC, 26 MDIO, 27 TEST_ON, 28 ISET, 29 AGND1V, 30 MDI_RN, 31 MDI_RP, 32 NC, 33 MDI_TN, 34 MDI_TP, 35 AGND33, 36 AVDD33, 37 NC, 38 NC, 39 NC, 40 NC, 41 NC, 42 RESET_N, 43 TXER/FXSD, 44 NC, 45 DGND, 46 X1, 47 X2, 48 INTR

## IRF530N/TO_0_1
designator Q?  Supplier Part Number 1: IRF530STRLPBFDKR-ND
Canal N Montaje en superficie 100V 14 A (Tc) 3.7W (Ta), 88W (Tc) D2PAK; Manufacturer: Vishay Siliconix; Manufacturer Part Number: IRF530STRLPBF; Rise Time: 34ns; Rds On Max: 160mR; Input Capacitance: 670pF; Nominal Vgs: 2V; Continuous Drain Current (ID): 14A; Gate to Source Voltage (Vgs): 20V; Fall Time: 24ns; Turn-Off Delay Time: 23ns; Turn-On Delay Time: 10ns; Number of Elements: 1; Element Configuration: Single; Supplier 1: Digi-Key; Stock 1: 843; Pricing 1: 1=1.62, 10=1.453, 100=1.0689 (USD); Mount: Surface Mount; Case/Package: TO-263-3; Number of Pins: 3; Weight: 0.068654oz; Min Operating Temperature: -55°C; Max Operating Temperature: 175°C; Packaging: Tape and Reel; Package Quantity: 800; Drain to Source Voltage (Vdss): 100V; Max Power Dissipation: 3.7W; Drain to Source Breakdown Voltage: 100V; Drain to Source Resistance: 160mR; Power Dissipation: 3.7W; Number of Channels: 1; Length: 10.67mm; Height: 4.83mm; Width: 9.65mm; Radiation Hardening: No; REACH SVHC: Unknown; ComponentLink1URL: http://www.vishay.com/docs/91020/sihf530s.pdf?src-supplier=Avnet+Europe; ComponentLink1Description: http://www.vishay.com/docs/91020/sihf530s.pdf?src-supplier=Avnet+Europe; ComponentLink2URL: http://www.mouser.com/ds/2/427/sihf530s-896361.pdf?src-supplier=Mouser; ComponentLink2Description: http://www.mouser.com/ds/2/427/sihf530s-896361.pdf?src-supplier=Mouser; ComponentLink3URL: http://www.vishay.com/docs/91020/sihf530s.pdf?src-supplier=Digi-Key; ComponentLink3Description: http://www.vishay.com/docs/91020/sihf530s.pdf?src-supplier=Digi-Key
footprint TO263 - mosfet
pins: 1, 2, 3

## IRFR210TRPBF
designator Q?  Supplier Part Number 1: IRFR210PBFDKR-ND
Canal N Montaje en superficie 200V 2.6 A (Tc) 2.5W (Ta), 25W (Tc) D-Pak; Manufacturer: Vishay; Manufacturer Part Number: IRFR210TRPBF; Rds On Max: 1.5R; Input Capacitance: 140pF; Rise Time: 17ns; Continuous Drain Current (ID): 2.6A; Gate to Source Voltage (Vgs): 20V; Fall Time: 8.9ns; Turn-Off Delay Time: 14ns; Turn-On Delay Time: 8.2ns; Number of Elements: 1; Element Configuration: Single; Supplier 1: Digi-Key; Stock 1: 584; Pricing 1: 1=0.91, 10=0.81, 100=0.5769, 500=0.48896, 1000=0.39832 (USD); Mount: Surface Mount; Case/Package: DPAK; Number of Pins: 3; Weight: 0.050717oz; Contact Plating: Tin,Matte; Min Operating Temperature: -55°C; Max Operating Temperature: 150°C; Package Quantity: 1; Packaging: Tape and Reel; Drain to Source Voltage (Vdss): 200V; Max Power Dissipation: 2.5W; Drain to Source Breakdown Voltage: 200V; Drain to Source Resistance: 1.5R; Power Dissipation: 2.5W; Number of Channels: 1; On-State Resistance: 1.5R; Length: 6.73mm; Height: 2.39mm; Width: 6.22mm; Radiation Hardening: No; Lead Free: Lead Free; ComponentLink1URL: http://www.mouser.com/ds/2/427/sihfr210-61757.pdf?src-supplier=Mouser; ComponentLink1Description: http://www.mouser.com/ds/2/427/sihfr210-61757.pdf?src-supplier=Mouser; ComponentLink2URL: http://www.vishay.com/docs/91268/sihfr210.pdf?src-supplier=Digi-Key; ComponentLink2Description: http://www.vishay.com/docs/91268/sihfr210.pdf?src-supplier=Digi-Key; ComponentLink3URL: http://www.vishay.com/docs/91268/sihfr210.pdf?src-supplier=Future+Electronics; ComponentLink3Description: http://www.vishay.com/docs/91268/sihfr210.pdf?src-supplier=Future+Electronics
footprint TO252AB/DPAK
pins: 1, 2, 3

## ISO3082DWR
designator U?  Supplier Part Number 1: 296-37891-6-ND  Supplier Part Number 2: 296-37891-1-ND
200-Kbps, half-duplex, 2.5-kVrms isolated RS-485 & RS-422 transceiver; MF: Texas Instruments; Value: ISO3082DWR; Purchase-URL: https://pricing.snapeda.com/search/part/ISO3082DWR/?ref=eda; Package: SOIC-16 Texas Instruments; SnapEDA_Link: https://www.snapeda.com/parts/ISO3082DWR/Texas+Instruments/view-part/?ref=snap; Check_prices: https://www.snapeda.com/parts/ISO3082DWR/Texas+Instruments/view-part/?ref=eda; Price: None; MP: ISO3082DWR; Availability: In Stock; Supplier 1: Digi-Key; Supplier 2: Digi-Key; Digi_Key_Part_Number: 296-37891-1-ND; Link: https://www.digikey.com/es/products/detail/ISO3082DWR/296-37891-6-ND/4899999?utm_campaign=buynow&utm_medium=aggregator&curr=usd&utm_source=octopart; ComponentLink1Description: ISO RS485/422 0.2MBPS 2.5KVRMS; ComponentLink1URL: https://www.digikey.com/es/products/detail/texas-instruments/ISO3082DWR/1898638
footprint SOIC127P1030X265-16N
pins: 1 VCC1 (power), 2 GND1 (power), 3 R (out), 4 ~{RE} (in), 5 DE (in), 6 D (in), 7 GND1 (power), 8 GND1 (power), 9 GND2 (power), 10 GND2 (power), 11 NC, 12 A (io), 13 B (io), 14 NC, 15 GND2 (power), 16 VCC2 (power)

## IXDD604SIATR
designator U?  Supplier Part Number 1: 212-IXDD604SIADKR-ND
Nivel bajo Gate Driver IC No inversor 8-SOIC; Manufacturer: Ixys Clare; Manufacturer Part Number: IXDD604SIATR; Rise Time: 9ns; Max Supply Voltage: 35V; Min Supply Voltage: 4.5V; Output Current: 4A; Number of Outputs: 2; Propagation Delay: 50ns; Fall Time: 8ns; Operating Supply Current: 10uA; Supplier 1: Digi-Key; Stock 1: 2000; Pricing 1: 1=1.76, 10=1.583, 25=1.4936, 100=1.1948, 250=1.04544, 500=1.01558, 1000=0.80649 (USD); Mount: Surface Mount; Case/Package: SOIC; Number of Pins: 8; Weight: 0.019048oz; Min Operating Temperature: -40°C; Max Operating Temperature: 125°C; Packaging: Tape and Reel; Package Quantity: 2000; Max Output Current: 4A; Number of Drivers: 2; Lead Free: Lead Free; ComponentLink1URL: http://www.ixysic.com/home/pdfs.nsf/www/IXD_604.pdf/file/IXD_604.pdf?src-supplier=Digi-Key; ComponentLink1Description: http://www.ixysic.com/home/pdfs.nsf/www/IXD_604.pdf/file/IXD_604.pdf?src-supplier=Digi-Key
footprint *SOIC127P600X134-8N
pins: GND 3 (power), INA 2, INB 4, OUTA 7, OUTB 5, VCC 6 (power)

## Jumper
designator W?, comment S9342-ND
2 (1 x 2) Conector de derivación de posiciones Parte superior abierta 0.100" (2.54mm) Oro; Published: 24-Mar-1999; LatestRevisionDate: 17-Jul-2002; LatestRevisionNote: Re-released for DXP Platform.; PackageReference: RAD-0.2; Publisher: Altium Limited; PackageDescription: Radial Cap, Thru-Hole; 2 Leads; 0.2 in Pin Spacing; Supplier 1: Digi-Key; Link: https://www.digikey.com/es/products/detail/SPC02SXCN-RC/S9342-ND/2618267?utm_campaign=buynow&utm_medium=aggregator&curr=usd&utm_source=octopart; Digi_Key_Part_Number: S9342-ND; ComponentLink1Description: CONN JUMPER SHORTING .100" GOLD; ComponentLink1URL: https://www.digikey.com/es/products/detail/sullins-connector-solutions/SPC02SXCN-RC/2618267?s=N4IgTCBcDaIMoE4DMAWMBaAcgERAXQF8g; Supplier Part Number 1: S9342-ND
footprint RAD-0.2 (Radial Cap, Thru-Hole; 2 Leads; 0.2 in Pin Spacing)
pins: 1 C1, 2 C2

## keypad_ProID
designator P?
Header, 8-Pin; LatestRevisionDate: 17-Jul-2002; LatestRevisionNote: Re-released for DXP Platform.; Publisher: Altium Limited
footprint keypad (Connector; Header; 8 Position)
pins: 1 RED_+DC, 2 BLACK_GND, 3 GREEN_D0, 4 WHITE_D1, 5 GREY_LED, 6 YELLOW_WG34/CONNECT TO GND, 7 PURPLE_BEEPER, 8

## KL-CWXM04
designator RF?  Supplier Part Number 1: 455-2271-ND
RF super heterodyne 315mhz rf wireless transmitter and receiver KL-CWXM04-Pin; Manufacturer: JST; Manufacturer Part Number: B6BXHA(LF)(SN); Contact Resistance: 20mR; Current Rating: 3A; Voltage Rating (AC): 250V; Number of Positions: 6; Insulation Resistance: 1GR; Connector Type: Male Pin; Wire/Cable Gauge: 22AWG; Pitch: 2.5mm; LatestRevisionDate: 17-Jul-2002; LatestRevisionNote: Re-released for DXP Platform.; Publisher: Altium Limited; Supplier 1: Digi-Key; Stock 1: 28709; Pricing 1: 1=0.27, 10=0.258, 100=0.1808, 500=0.15494, 1000=0.12912, 5000=0.11068, 10000=0.1033 (USD); Mount: Through Hole; Contact Plating: Tin,Lead,Copper; Contact Material: Brass; Color: Natural; Housing Color: White; Housing Material: Polyamide; Min Operating Temperature: -25°C; Max Operating Temperature: 85°C; Package Quantity: 500; Packaging: Bulk; Termination: Press-Fit; Number of Rows: 1; Voltage Rating: 250V; Max Current Rating: 3A; Number of Contacts: 6; Max Voltage Rating (AC): 250V; Max Voltage Rating (DC): 250V; Orientation: Straight; Length: 17.4mm; Depth: 5.75mm; Lead Pitch: 2.5mm; REACH SVHC: No SVHC; Lead Free: Lead Free; ComponentLink1URL: https://www.verical.com/server-webapp/html/getDatasheet?partID=424647&src-supplier=Verical; ComponentLink1Description: https://www.verical.com/server-webapp/html/getDatasheet?partID=424647&src-supplier=Verical; ComponentLink2URL: http://www.rapidonline.com/pdf/523653.pdf?src-supplier=Rapid+Electronics; ComponentLink2Description: http://www.rapidonline.com/pdf/523653.pdf?src-supplier=Rapid+Electronics; ComponentLink3URL: https://www.verical.com/server-webapp/html/getDatasheet?partID=641012&src-supplier=Verical; ComponentLink3Description: https://www.verical.com/server-webapp/html/getDatasheet?partID=641012&src-supplier=Verical; ComponentLink4URL: http://www1.futureelectronics.com/doc/JST/B6B-XH-A(LF)(SN).pdf?src-supplier=Future+Electronics; ComponentLink4Description: http://www1.futureelectronics.com/doc/JST/B6B-XH-A(LF)(SN).pdf?src-supplier=Future+Electronics; ComponentLink5URL: http://www.jst-mfg.com/product/pdf/eng/eXH.pdf?src-supplier=Digi-Key; ComponentLink5Description: http://www.jst-mfg.com/product/pdf/eng/eXH.pdf?src-supplier=Digi-Key
footprint HDR1X7 (Connector; Header; 6 Position)
pins: 1 VCC, 2 VT, 3 GND, 4 D3, 5 D2, 6 D1, 7 D0

## LED BI-COLOUR
designator D?  Supplier Part Number 1: 754-1221-ND
Manufacturer: Kingbright; Manufacturer Part Number: WP3VEGW; Color: Green,Red; Lens Color: White; Luminous Intensity: 40mcd; Viewing Angle: 60°; Lens Style: Dome,Diffused,Round; Forward Voltage: 2V; Dominant Wavelength: 625nm; Test Current: 20mA; Supplier 1: Digi-Key; Stock 1: 32286; Pricing 1: 1=0.58, 10=0.417, 100=0.272, 500=0.1955, 1000=0.153, 2500=0.14025, 5000=0.1275, 10000=0.119, 25000=0.11475 (USD); Mount: Through Hole; Case/Package: Radial; Number of Pins: 1; Min Operating Temperature: -40°C; Max Operating Temperature: 85°C; Package Quantity: 500; Packaging: Bulk; Illumination Color: Green,Red; Height: 5mm; Width: 4mm; Lead Free: Lead Free; ComponentLink1URL: http://www.us.kingbright.com/images/catalog/SPEC/WP3VEGW.pdf?src-supplier=Future+Electronics; ComponentLink1Description: http://www.us.kingbright.com/images/catalog/SPEC/WP3VEGW.pdf?src-supplier=Future+Electronics; ComponentLink2URL: http://www.mouser.com/ds/2/216/WP3VEGW-47873.pdf?src-supplier=Mouser; ComponentLink2Description: http://www.mouser.com/ds/2/216/WP3VEGW-47873.pdf?src-supplier=Mouser; ComponentLink3URL: http://www.kingbrightusa.com/images/catalog/SPEC/WP3VEGW.pdf?src-supplier=Digi-Key; ComponentLink3Description: http://www.kingbrightusa.com/images/catalog/SPEC/WP3VEGW.pdf?src-supplier=Digi-Key
footprint LED BI-COLOUR
pins: 1, 2, 3

## LED BI-COLOUR_SMD
designator D?, comment 160-1409-1-ND  Supplier Part Number 1: 160-1409-6-ND
Verde, rojo Verde de 571nm, rojo de 631nm Indicación led: discreta Verde de 2V, rojo de 2V 1210 (3225 métrico); Manufacturer: Kingbright; Manufacturer Part Number: WP3VEGW; Color: Green,Red; Lens Color: White; Luminous Intensity: 40mcd; Viewing Angle: 60°; Lens Style: Dome,Diffused,Round; Dominant Wavelength: 625nm; Test Current: 20mA; Mount: Through Hole; Case/Package: Radial; Number of Pins: 1; Min Operating Temperature: -40°C; Max Operating Temperature: 85°C; Package Quantity: 500; Packaging: Bulk; Forward Voltage: 2V; Illumination Color: Green,Red; Height: 5mm; Width: 4mm; Lead Free: Lead Free; Supplier 1: Digi-Key; ComponentLink2Description: LED GREEN/RED CLEAR CHIP SMD; ComponentLink2URL: https://www.digikey.com/es/products/detail/liteon/LTST-C155KGJRKT/386767?s=N4IgTCBcDaIIwDYAMBaOAWJBONKByAIiALoC%2BQA; Digi-Key_Part_Number: 160-1409-1-ND; Link: https://www.digikey.com/es/products/detail/liteon/LTST-C155KGJRKT/386767?s=N4IgTCBcDaIIwDYAMBaOAWJBONKByAIiALoC%2BQA
footprint LED_LTST-C155GEKT
pins: 1, 2, 3, 4

## LED_3mm
designator D?
footprint LED 3mm
pins: 1, 2

## LED_ROJO_1206
designator D?, comment Supplier Part Number 1: SML-LXL1206SRC-TR-ND  (hidden comment: 67-2299-1-ND)
Rojo Indicación led: discreta 1.7V 1206 (3216 métrico); Value: LED RED; Supplier 1: Digi-Key; Link: https://www.digikey.com/es/products/detail/lumex-opto-components-inc/SML-LXL1206SRC-TR/515910?s=N4IgTCBcDaIGwHYC0YwE41IIxIHIBEQBdAXyA; Digi_Key_Part_Number: 67-2299-1-ND; ComponentLink1Description: LED RED CLEAR 1206 SMD; ComponentLink1URL: https://www.digikey.com/es/products/detail/lumex-opto-components-inc/SML-LXL1206SRC-TR/515910?s=N4IgTCBcDaIGwHYC0YwE41IIxIHIBEQBdAXyA
footprint SM/D_0805_21_led
pins: 1, 2

## LED_VERDE_1206
designator D?, comment Supplier Part Number 1: 160-1404-6-ND  (hidden comment: 160-1404-1-ND)
Verde 571nm Indicación led: discreta 2V 1206 (3216 métrico); Value: LED GREEN; Supplier 1: Digi-Key; Digi_Key_Part_Number: 160-1404-1-ND; Link: https://www.digikey.com/es/products/detail/liteon/LTST-C150KGKT/365085?s=N4IgTCBcDaIIwDYAMBaOAWJ60oHIBEQBdAXyA; ComponentLink1Description: LED GREEN CLEAR 1206 SMD; ComponentLink1URL: https://www.digikey.com/es/products/detail/liteon/LTST-C150KGKT/365085?s=N4IgTCBcDaIIwDYAMBaOAWJ60oHIBEQBdAXyA
footprint SM/D_0805_21_led - VERDE
pins: 1, 2

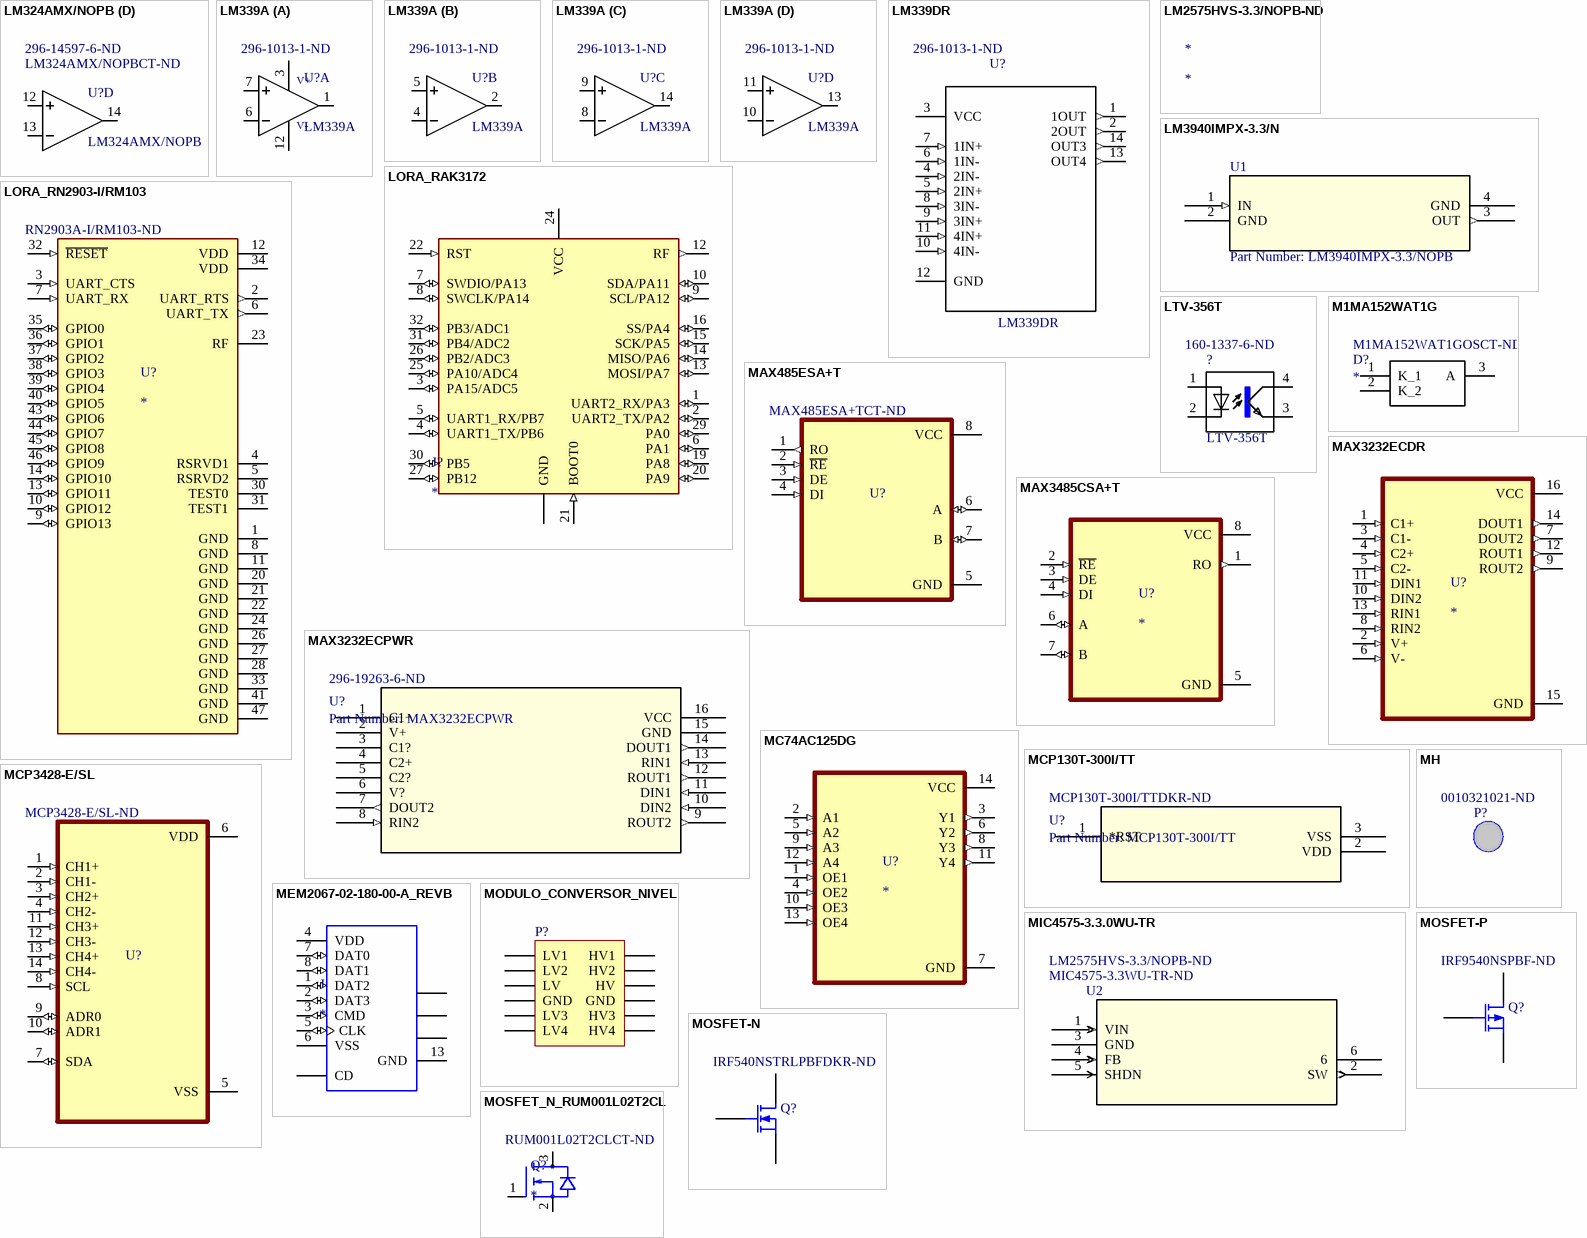
[diagram p4: symbols LM324AMX/NOPB to MOSFET_N_RUM001L02T2CL]